# EAGLE library part X__JST_ZH_LIEGEND_7 (library 16112011___connector)
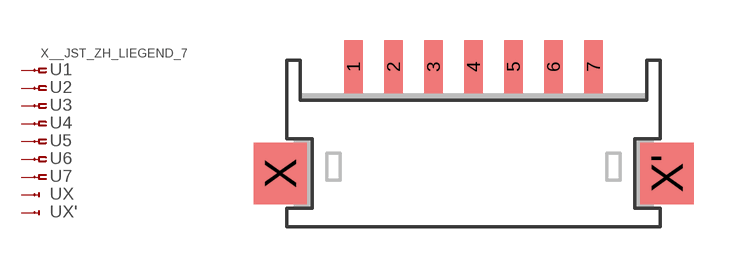
[diagram p49: symbol with the pads of JST_ZH_LIEGEND_7; footprint JST_ZH_LIEGEND_7]

Designator prefix -; gates 1=ZHPIN-NV 2=ZHPIN-N 3=ZHPIN-N 4=ZHPIN-N 5=ZHPIN-N 6=ZHPIN-N 7=ZHPIN-N X=ZHPIN-X X'=ZHPIN-X

## X__JST_ZH_LIEGEND_7  [JST_ZH_LIEGEND_7]
1  1:1  pas
2  2:1  pas
3  3:1  pas
4  4:1  pas
5  5:1  pas
6  6:1  pas
7  7:1  pas
X  X:1  pas
X'  X':1  pas

## Footprint JST_ZH_LIEGEND_7 (pad centres in mm)
smd 0.7 x 2: 1 0,0; 2 1.5,0; 3 3,0; 4 4.5,0; 5 6,0; 6 7.5,0; 7 9,0
smd 2 x 2.3: X -2.75,-4; X' 11.75,-4